# EAGLE library part VCNL4010-GS08 (library VCNL4010-GS08)
Proximity & Ambient Light Sensor I2C SMD Vishay VCNL4010-GS08 SMT Reflective Sensor, Microcontroller Output Source: Datasheet <https://componentsearchengine.com/Datasheets/2/VCNL4010-GS08.pdf>
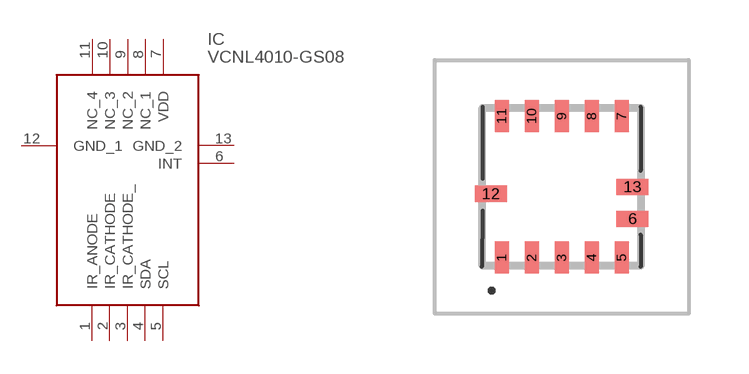
[diagram p0: symbol with the pads of VCNL4010GS08; footprint VCNL4010GS08]

Designator prefix IC

## VCNL4010-GS08 (Description: Proximity & Ambient Light Sensor I2C SMD Vishay VCNL4010-GS08 SMT Reflective Sensor, Microcontroller Output; Height: 0.75mm; Manufacturer_Name: Vishay; Manufacturer_Part_Number: VCNL4010-GS08; Mouser_Part_Number: 78-VCNL4010-GS08; Mouser_Price-Stock: https://www.mouser.co.uk/ProductDetail/Vishay-Semiconductors/VCNL4010-GS08?qs=s4XK1XdnRik7x1pyEKUO2w%3D%3D)  [VCNL4010GS08]
1  IR_ANODE
2  IR_CATHODE
3  IR_CATHODE_
4  SDA
5  SCL
6  INT
7  VDD
8  NC_1
9  NC_2
10  NC_3
11  NC_4
12  GND_1
13  GND_2

## Footprint VCNL4010GS08 (pad centres in mm)
VCNL4010-GS08-2
smd 0.35 x 0.805: 1 -1.5,-1.772; 2 -0.75,-1.772; 3 0,-1.772; 4 0.75,-1.772; 5 1.5,-1.772; 7 1.5,1.772; 8 0.75,1.772; 9 0,1.772; 10 -0.75,1.772; 11 -1.5,1.772
smd 0.805 x 0.4: 6 1.772,-0.8; 12 -1.772,-0.175; 13 1.772,0